# Altium schematic symbol library Miscellaneus.SchLib: 1 symbol
Pins are listed as number, name and electrical type; pins without a type are passive.

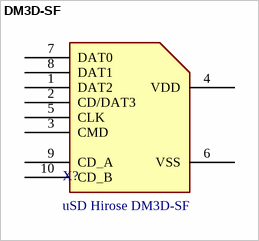
[diagram p0: symbol DM3D-SF]

## DM3D-SF
designator X?, comment uSD Hirose DM3D-SF
HIROSE(HRS) - DM3D-SF - Memory Socket, microSD Series, Memory Socket, 8 Contacts, Copper Alloy, Gold Plated Contacts; Product Training Modules: DM3 Series microSD Card Sockets; Featured Product: dm3d-series; HTML Datasheet: DM3 Series microSD.html; Card Type: Secure Digital - microSD™; Number of Positions: 10 (8 + 2); Connector Type: Connector; Insertion, Removal Method: Push In, Pull Out; Online Catalog: DM3 Series; Other Names: HR1941CT; Supplier 1: Digi-Key; Manufacturer: Hirose; Manufacturer Part Number: DM3D-SF; Stock 1: 0; Pricing 1: 1=1.65, 10=1.495, 25=1.4032, 50=1.342, 100=1.281, 250=1.159, 500=1.0675, 1000=0.915 (USD); Catalog Drawings: DM3D-SF; Standard Package: 1; Category: Connectors, Interconnects; Family: Memory Connectors - PC Card Sockets; Series: DM3; Packaging: Cut Tape (CT); Ejector Side: -; Mounting Type: Surface Mount, Right Angle; Features: Switch; Height Above Board: 0.061" (1.55mm); Mounting Feature: Normal, Standard - Top; Contact Finish: Gold; Contact Finish Thickness: -; ComponentLink1URL: http://www.farnell.com/datasheets/1697167.pdf?src-supplier=Element14; ComponentLink1Description: http://www.farnell.com/datasheets/1697167.pdf?src-supplier=Element14; ComponentLink2URL: http://www.farnell.com/datasheets/1697167.pdf?src-supplier=Farnell; ComponentLink2Description: http://www.farnell.com/datasheets/1697167.pdf?src-supplier=Farnell; ComponentLink3URL: http://uk.rs-online.com/webdocs/0fd1/0900766b80fd13c1.pdf?src-supplier=RSComponents; ComponentLink3Description: http://uk.rs-online.com/webdocs/0fd1/0900766b80fd13c1.pdf?src-supplier=RSComponents; ComponentLink4URL: http://www.hirose.co.jp/cataloge_hp/e60900232.pdf?src-supplier=Avnet; ComponentLink4Description: http://www.hirose.co.jp/cataloge_hp/e60900232.pdf?src-supplier=Avnet; ComponentLink5URL: http://www.hirose.co.jp/cataloge_hp/e60900232.pdf?src-supplier=Future+Electronics; ComponentLink5Description: http://www.hirose.co.jp/cataloge_hp/e60900232.pdf?src-supplier=Future+Electronics; ComponentLink6URL: https://www.verical.com/server-webapp/html/getDatasheet?partID=432464&src-supplier=Verical; ComponentLink6Description: https://www.verical.com/server-webapp/html/getDatasheet?partID=432464&src-supplier=Verical; ComponentLink7URL: https://www.hirose.com/product/en/download_file/key_name/DM3/category/Catalog/doc_file_id/49662/?file_category_id=4&item_id=195&is_series=1&src-supplier=Digi-Key; ComponentLink7Description: https://www.hirose.com/product/en/download_file/key_name/DM3/category/Catalog/doc_file_id/49662/?file_category_id=4&item_id=195&is_series=1&src-supplier=Digi-Key; Supplier Part Number 1: HR1941CT-ND
pins: 1 DAT2 (power), 2 CD/DAT3 (power), 3 CMD (power), 4 VDD (power), 5 CLK (power), 6 VSS (power), 7 DAT0 (power), 8 DAT1 (power), 9 CD_A (power), 10 CD_B (power)